# Altium schematic symbol library BAT.Schlib: 1 symbol
Pins are listed as number, name and electrical type; pins without a type are passive.

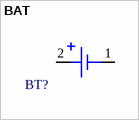
[diagram p0: symbol BAT]

## BAT
designator BT?  (value not drawn)
Component Type: Mechanical
pins: 1 NEG, 2 POS